# EAGLE library part INA240 (library my_ic)
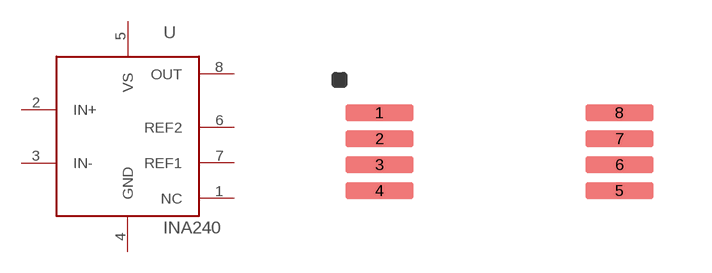
[diagram p31: symbol with the pads of TSSOP-8; footprint TSSOP-8]

Designator prefix -

## INA240  [TSSOP-8]
1  NC
2  IN+
3  IN-
4  GND
5  VS
6  REF2
7  REF1
8  OUT

## Footprint TSSOP-8 (pad centres in mm)
smd 1.7 x 0.4: 1 -3,0.975; 2 -3,0.325; 3 -3,-0.325; 4 -3,-0.975; 5 3,-0.975; 6 3,-0.325; 7 3,0.325; 8 3,0.975